# EAGLE library part 612050235221 (library Wuerth_Elektronik_eiCan_Box_Header_&_IDC_Connectors_v1.2)
WR-BHD 2.54mm Male Angled Box Header High Temperature, 50 Pins
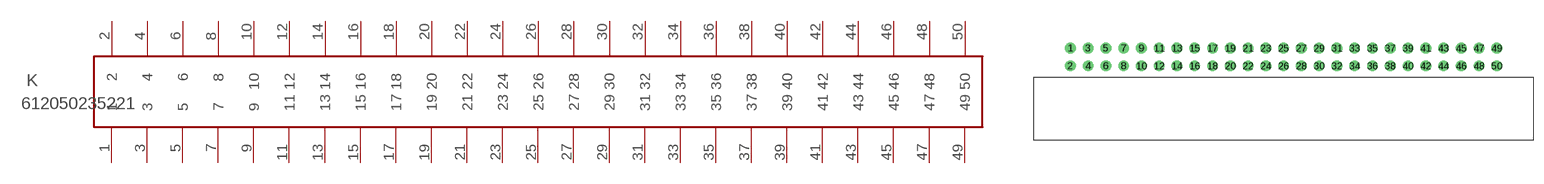
[diagram p121: symbol with the pads of 612050235221; footprint 612050235221]

Designator prefix K

## 612050235221  [612050235221]
1  1  pas
2  2  pas
3  3  pas
4  4  pas
5  5  pas
6  6  pas
7  7  pas
8  8  pas
9  9  pas
10  10  pas
11  11  pas
12  12  pas
13  13  pas
14  14  pas
15  15  pas
16  16  pas
17  17  pas
18  18  pas
19  19  pas
20  20  pas
21  21  pas
22  22  pas
23  23  pas
24  24  pas
25  25  pas
26  26  pas
27  27  pas
28  28  pas
29  29  pas
30  30  pas
31  31  pas
32  32  pas
33  33  pas
34  34  pas
35  35  pas
36  36  pas
37  37  pas
38  38  pas
39  39  pas
40  40  pas
41  41  pas
42  42  pas
43  43  pas
44  44  pas
45  45  pas
46  46  pas
47  47  pas
48  48  pas
49  49  pas
50  50  pas

## Footprint 612050235221 (pad centres in mm)
WR-BHD 2.54mm Male Angled Box Header High Temperature, 50 Pins
drill 1.02 round: 1 -58.42,1.27; 2 -58.42,-1.27; 3 -55.88,1.27; 4 -55.88,-1.27; 5 -53.34,1.27; 6 -53.34,-1.27; 7 -50.8,1.27; 8 -50.8,-1.27; 9 -48.26,1.27; 10 -48.26,-1.27; 11 -45.72,1.27; 12 -45.72,-1.27; 13 -43.18,1.27; 14 -43.18,-1.27; 15 -40.64,1.27; 16 -40.64,-1.27; 17 -38.1,1.27; 18 -38.1,-1.27; 19 -35.56,1.27; 20 -35.56,-1.27; 21 -33.02,1.27; 22 -33.02,-1.27; 23 -30.48,1.27; 24 -30.48,-1.27; 25 -27.94,1.27; 26 -27.94,-1.27; 27 -25.4,1.27; 28 -25.4,-1.27; 29 -22.86,1.27; 30 -22.86,-1.27; 31 -20.32,1.27; 32 -20.32,-1.27; 33 -17.78,1.27; 34 -17.78,-1.27; 35 -15.24,1.27; 36 -15.24,-1.27; 37 -12.7,1.27; 38 -12.7,-1.27; 39 -10.16,1.27; 40 -10.16,-1.27; 41 -7.62,1.27; 42 -7.62,-1.27; 43 -5.08,1.27; 44 -5.08,-1.27; 45 -2.54,1.27; 46 -2.54,-1.27; 47 0,1.27; 48 0,-1.27; 49 2.54,1.27; 50 2.54,-1.27